# EAGLE library part IS63LV1024L (library IC)
128Kx8 High Speed SRAM
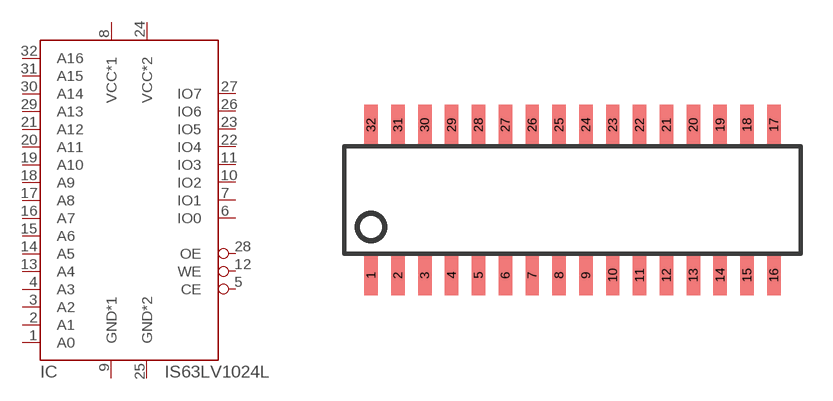
[diagram p23: symbol with the pads of SOJ32-300; footprint SOJ32-300]

Designator prefix IC

## IS63LV1024L-J  [SOJ32-300]
1  A0
2  A1
3  A2
4  A3
5  CE
6  IO0
7  IO1
8  VCC*1  pwr
9  GND*1  pwr
10  IO2
11  IO3
12  WE
13  A4
14  A5
15  A6
16  A7
17  A8
18  A9
19  A10
20  A11
21  A12
22  IO4
23  IO5
24  VCC*2  pwr
25  GND*2  pwr
26  IO6
27  IO7
28  OE
29  A13
30  A14
31  A15
32  A16

## Footprint SOJ32-300 (pad centres in mm)
300 mil Plastic SOJ, 32 pin
smd 0.635 x 1.905: 1 -10.16,-3.556; 2 -8.89,-3.556; 3 -7.62,-3.556; 4 -6.35,-3.556; 5 -5.08,-3.556; 6 -3.81,-3.556; 7 -2.54,-3.556; 8 -1.27,-3.556; 9 0,-3.556; 10 1.27,-3.556; 11 2.54,-3.556; 12 3.81,-3.556; 13 5.08,-3.556; 14 6.35,-3.556; 15 7.62,-3.556; 16 8.89,-3.556; 17 8.89,3.556; 18 7.62,3.556; 19 6.35,3.556; 20 5.08,3.556; 21 3.81,3.556; 22 2.54,3.556; 23 1.27,3.556; 24 0,3.556; 25 -1.27,3.556; 26 -2.54,3.556; 27 -3.81,3.556; 28 -5.08,3.556; 29 -6.35,3.556; 30 -7.62,3.556; 31 -8.89,3.556; 32 -10.16,3.556